# Altium footprint library DF941S1V32.PcbLib: 1 footprints
Each footprint in its own frame and in the unit in brackets; x right, y up, seen from the top. Pads: shape width x height; smd on the part's side, far side on the other; paste and mask are expansions set on the pad; w line width, h text height; cw(c..) or ccw(c..) is an arc to the next point about the centre after c.
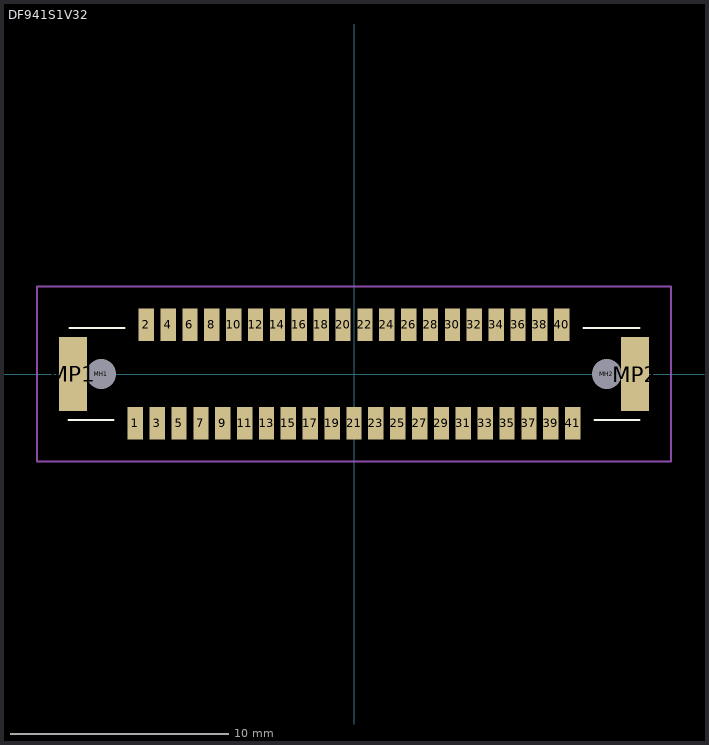
[diagram p0: the footprint, top view; thin cyan lines are the x and y axes]

## DF941S1V32 [mm]
pads (45):
  rect 0.7x1.5 smd: 1(-10,-2.25) 2(-9.5,2.25) 3(-9,-2.25) 4(-8.5,2.25) 5(-8,-2.25) 6(-7.5,2.25) 7(-7,-2.25) 8(-6.5,2.25) 9(-6,-2.25) 10(-5.5,2.25) 11(-5,-2.25) 12(-4.5,2.25) 13(-4,-2.25) 14(-3.5,2.25) 15(-3,-2.25) 16(-2.5,2.25) 17(-2,-2.25) 18(-1.5,2.25) 19(-1,-2.25) 20(-0.5,2.25) 21(0,-2.25) 22(0.5,2.25) 23(1,-2.25) 24(1.5,2.25) 25(2,-2.25) 26(2.5,2.25) 27(3,-2.25) 28(3.5,2.25) 29(4,-2.25) 30(4.5,2.25) 31(5,-2.25) 32(5.5,2.25) 33(6,-2.25) 34(6.5,2.25) 35(7,-2.25) 36(7.5,2.25) 37(8,-2.25) 38(8.5,2.25) 39(9,-2.25) 40(9.5,2.25) 41(10,-2.25)
  round 0.675 hole 1.35 unplated: MH1(-11.55,0) MH2(11.55,0)
  rect 1.3x3.4 smd: MP1(-12.85,0) MP2(12.85,0)
Top Overlay:
  lines w0.1: -13.05,-2.1 -11,-2.1 ; -13,2.1 -10.5,2.1 ; 10.5,2.1 13.05,2.1 ; 11,-2.1 13.05,-2.1
Mechanical 20:
  lines w0.1: -14.5,-4 14.5,-4 14.5,4 -14.5,4 -14.5,-4
3D body "DF9-41S-1V.stp": height 3.31, standoff -0.79, extent -13.05,-2.794 13.05,2.806